# Altium schematic symbol library bms.SchLib: 18 symbols
Pins are listed as number, name and electrical type; pins without a type are passive.

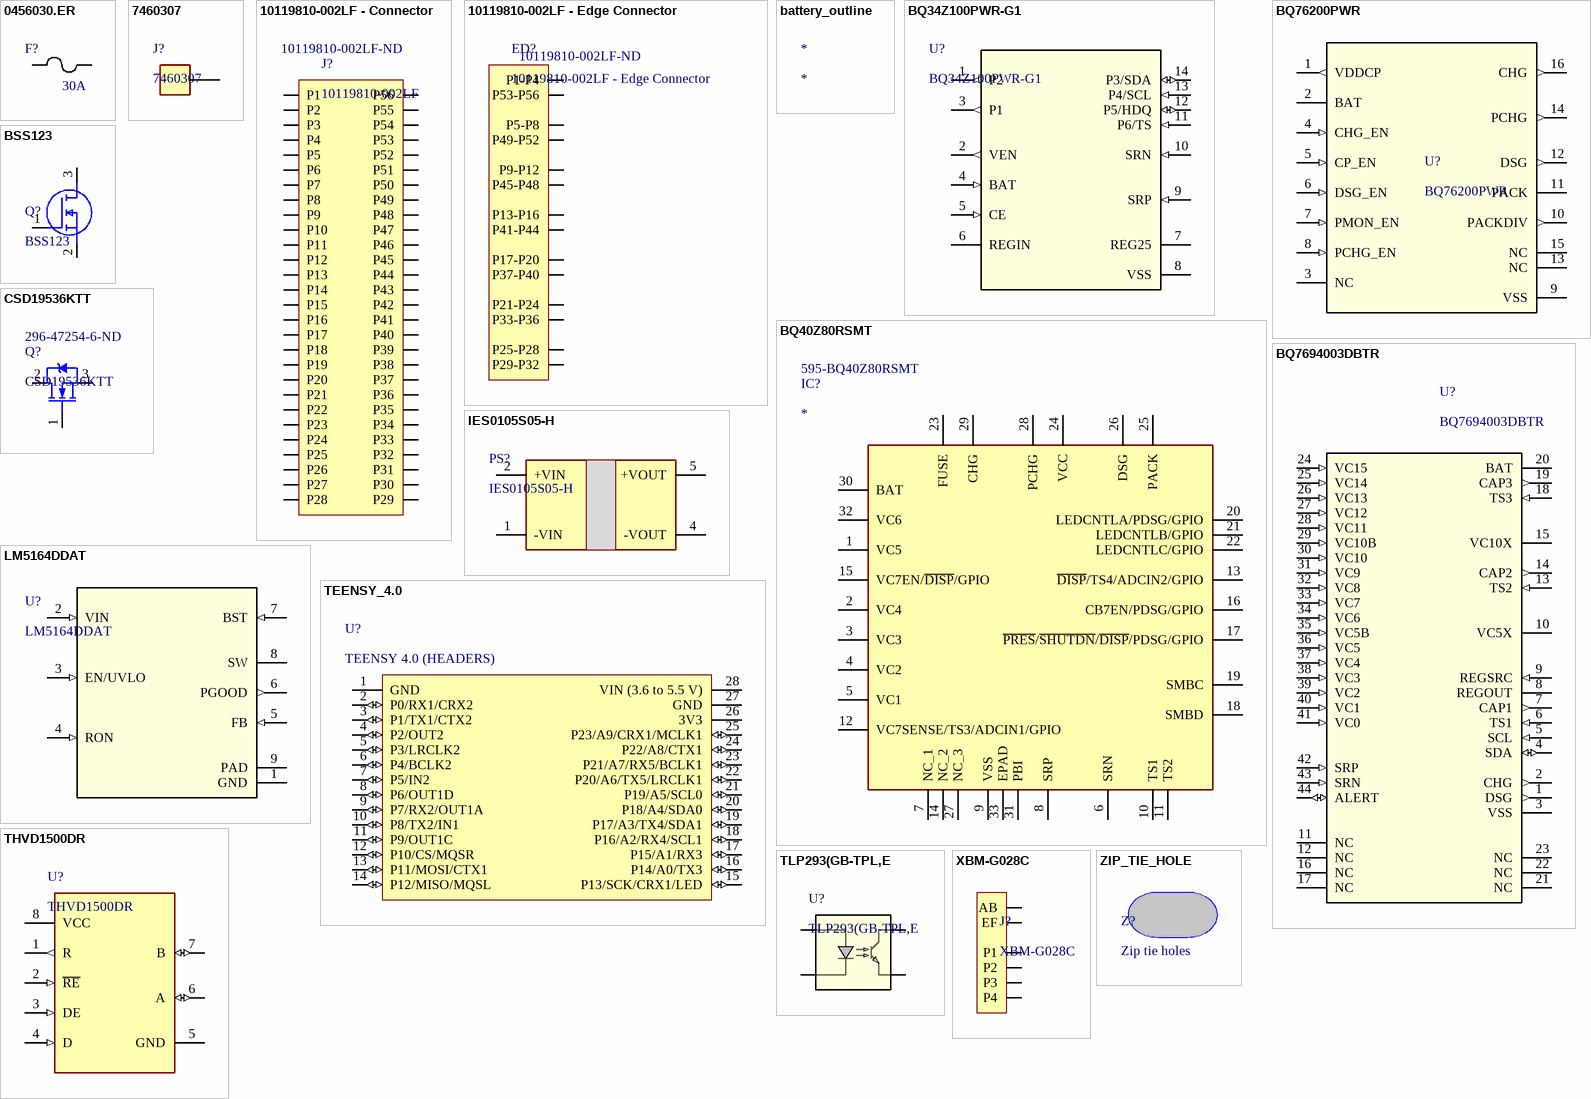
[diagram p0: symbols 0456030.ER to ZIP_TIE_HOLE]

## 0456030.ER
designator F?  Fuse Current: 30A  (hidden comment: 0456030.ER)
AC DC Fuse Board Mount (Cartridge Style Excluded) Surface Mount 2-SMD, Square End Block; Manufacturer: Littelfuse; Vendor: Littelfuse Inc; Built_By: EMA_UL_Team; SourceLibrary: Littelfuse_2002-01-01_FUSE_0400; Type: DEV; Body Material: Ceramic; Voltage Rating (AC): 125V; Voltage Rating (DC): 72V; Resistance: 1.32mR; Approvals: cULus,PSE; Manufacturer_Part_Number: 0456030.ER; Copyright: Copyright (C) 2018 Accelerated Designs. All rights reserved; RefDes: RefDes; Supplier 1: Digi-Key; Manufacturer Part Number: 0456030.ER; Stock 1: 4934; Pricing 1: 1=4.23, 5=4.092, 10=3.951, 50=3.104, 100=2.5396, 250=2.46908, 500=2.11636, 1000=1.97526 (USD); Mount: Surface Mount; Case/Package: SMD/SMT; Number of Pins: 2; Housing Material: Ceramic; Min Operating Temperature: -55°C; Max Operating Temperature: 125°C; Current Rating: 30A; Package Quantity: 2500; Voltage Rating: 125V; Packaging: Tape and Reel; Termination: SMD/SMT; DC Cold Resistance: 1.32mR; Fuse Type: Board Mount (Cartridge Style Excluded); Working Voltage: 125V; Length: 10.1mm; Width: 4.445mm; Height: 0.123inch; Depth: 3.12mm; Radiation Hardening: No; Lead Free: Lead Free; REACH SVHC: No SVHC; ComponentLink1URL: http://www.farnell.com/datasheets/1851809.pdf?src-supplier=Element14; ComponentLink1Description: http://www.farnell.com/datasheets/1851809.pdf?src-supplier=Element14; ComponentLink2URL: http://www.littelfuse.com/~/media/electronics/datasheets/fuses/littelfuse_fuse_456_datasheet.pdf.pdf?src-supplier=Digi-Key; ComponentLink2Description: http://www.littelfuse.com/~/media/electronics/datasheets/fuses/littelfuse_fuse_456_datasheet.pdf.pdf?src-supplier=Digi-Key; ComponentLink3URL: http://uk.rs-online.com/webdocs/1185/0900766b81185b84.pdf?src-supplier=RSComponents; ComponentLink3Description: http://uk.rs-online.com/webdocs/1185/0900766b81185b84.pdf?src-supplier=RSComponents; ComponentLink4URL: http://www.littelfuse.com/data/en/Data_Sheets/Littelfuse_Fuse_456.pdf?src-supplier=Future+Electronics; ComponentLink4Description: http://www.littelfuse.com/data/en/Data_Sheets/Littelfuse_Fuse_456.pdf?src-supplier=Future+Electronics; ComponentLink5URL: http://www.farnell.com/datasheets/1851809.pdf?src-supplier=Newark; ComponentLink5Description: http://www.farnell.com/datasheets/1851809.pdf?src-supplier=Newark; ComponentLink6URL: https://www.verical.com/server-webapp/html/getDatasheet?partID=306944&src-supplier=Verical; ComponentLink6Description: https://www.verical.com/server-webapp/html/getDatasheet?partID=306944&src-supplier=Verical; Supplier Part Number 1: F3345CT-ND
footprint FUS_LITTELFUSE_0456_30A_LTF
pins: 1, 2

## 7460307
designator J?
TERM REDCUBE M4 8PIN PCB 160A Current; Manufacturer: Wurth Electronics; Number of Contacts: 8; Insulation: Non-Insulated; Datasheet Link: https://katalog.we-online.com/em/datasheet/7460307.pdf; Height: 7mm; Mouser Part Number: 710-7460307; Mouser Price/Stock: https://www.mouser.co.uk/ProductDetail/Wurth-Elektronik/7460307?qs=lykWx4dhCCG1TLZtVq%252B8cQ%3D%3D; Supplier 1: Digi-Key; Manufacturer Part Number: 7460307; Stock 1: 4846; Pricing 1: 1=2.55, 10=2.356, 50=2.142, 100=1.947, 500=1.693 (USD); Mount: Through Hole; Number of Pins: 8; Contact Material: Copper; Contact Plating: Tin; Min Operating Temperature: -40°C; Max Operating Temperature: 135°C; Current Rating: 160A; Packaging: Bulk; Package Quantity: 250; Number of Rows: 2; Termination: Press-Fit; Length: 9mm; Width: 9mm; Thread Size: M4; REACH SVHC: Unknown; ComponentLink1URL: http://www.farnell.com/datasheets/1736661.pdf?src-supplier=Newark; ComponentLink1Description: http://www.farnell.com/datasheets/1736661.pdf?src-supplier=Newark; ComponentLink2URL: http://www.mouser.com/ds/2/445/7460307-537852.pdf?src-supplier=Mouser; ComponentLink2Description: http://www.mouser.com/ds/2/445/7460307-537852.pdf?src-supplier=Mouser; ComponentLink3URL: https://katalog.we-online.de/em/datasheet/7460307.pdf?src-supplier=Digi-Key; ComponentLink3Description: https://katalog.we-online.de/em/datasheet/7460307.pdf?src-supplier=Digi-Key; ComponentLink4URL: http://www.farnell.com/datasheets/1736661.pdf?src-supplier=Element14; ComponentLink4Description: http://www.farnell.com/datasheets/1736661.pdf?src-supplier=Element14; Supplier Part Number 1: 732-3201-ND
footprint 7460307
pins: 1 (power)

## 10119810-002LF - Connector
designator J?, comment 10119810-002LF  Supplier Part Number 1: 10119810-002LF-ND
56 Position Female Connector Non Specified - Dual Edge Gold or Gold, GXT™  Black; Manufacturer: Amphenol ICC (FCI); Supplier 1: Digi-Key; ComponentLink1Description: https://cdn.amphenol-icc.com/media/wysiwyg/files/drawing/10119810.pdf; ComponentLink1URL: https://cdn.amphenol-icc.com/media/wysiwyg/files/drawing/10119810.pdf; Manufacturer Part Number: 10119810-002LF; Detailed Description: 56 Position Female Connector Non Specified - Dual Edge Gold or Gold, GXT™  Black
footprint 10119810-002LF - Connector
pins: 3 P3 (power), P1 (power), P2 (power), P4 (power), P5 (power), P6 (power), P7 (power), P8 (power), P9 (power), P10 (power), P11 (power), P12 (power), P13 (power), P14 (power), P15 (power), P16 (power), P17 (power), P18 (power), P19 (power), P20 (power), P21 (power), P22 (power), P23 (power), P24 (power), P25 (power), P26 (power), P27 (power), P28 (power), P29 (power), P30 (power), P31 (power), P32 (power), P33 (power), P34 (power), P35 (power), P36 (power), P37 (power), P38 (power), P39 (power), P40 (power), P41 (power), P42 (power), P43 (power), P44 (power), P45 (power), P46 (power), P47 (power), P48 (power), P49 (power), P50 (power), P51 (power), P52 (power), P53 (power), P54 (power), P55 (power), P56 (power)

## 10119810-002LF - Edge Connector
designator ED?  Supplier Part Number 1: 10119810-002LF-ND
Supplier 1: Digi-Key
footprint 10119810-002LF - Edge Connector
pins: P1-P4 (power), P5-P8 (power), P9-P12 (power), P13-P16 (power), P17-P20 (power), P21-P24 (power), P25-P28 (power), P29-P32 (power), P33-P36 (power), P37-P40 (power), P41-P44 (power), P45-P48 (power), P49-P52 (power), P53-P56 (power)

## battery_outline
designator *
footprint battery_outline

## BQ34Z100PWR-G1
designator U?
Battery Battery Monitor IC Multi-Chemistry 14-TSSOP; SourceLibrary: TI_2016-05-20; Built_By: EMA_UL_Team; Vendor: Texas Instruments; Interface: I2C; Operating Supply Voltage: 4.5V; Copyright: Copyright (C) 2018 Accelerated Designs. All rights reserved; RefDes: RefDes; Type: DEV; Supplier 1: Mouser; Manufacturer: Texas Instruments; Manufacturer Part Number: BQ34Z100PWR-G1; Stock 1: 10681; Pricing 1: 1=4.09, 10=3.67, 25=3.47, 100=2.85, 250=2.56, 500=2.47, 1000=2.05, 2000=1.98, 4000=1.91 (USD); Mount: Surface Mount; Case/Package: TSSOP; Number of Pins: 14; Weight: 0.004949oz; Contact Plating: Gold; Min Operating Temperature: -40°C; Max Operating Temperature: 85°C; Packaging: Tape and Reel; Package Quantity: 2000; Lead Free: Lead Free; Supplier Part Number 1: 595-BQ34Z100PWR-G1; ComponentLink1Description: datasheet; ComponentLink1URL: https://www.ti.com/lit/ds/symlink/bq34z100-g1.pdf?HQS=TI-null-null-digikeymode-df-pf-null-wwe&ts=1601757828948
footprint TSSOP_14
pins: 1 P2 (out), 2 VEN (out), 3 P1 (out), 4 BAT (in), 5 CE (in), 6 REGIN (power), 7 REG25 (power), 8 VSS (power), 9 SRP (in), 10 SRN (in), 11 P6/TS (in), 12 P5/HDQ (io), 13 P4/SCL (in), 14 P3/SDA (io)

## BQ40Z80RSMT
designator IC?  Supplier Part Number 1: 595-BQ40Z80RSMT
Integrated Circuit; Manufacturer_Name: Texas Instruments; Manufacturer_Part_Number: BQ40Z80RSMT; Datasheet Link: http://www.ti.com/lit/gpn/BQ40Z80; Height: 1mm; Arrow Part Number: BQ40Z80RSMT; Arrow Price/Stock: https://www.arrow.com/en/products/bq40z80rsmt/texas-instruments; Mouser Part Number: 595-BQ40Z80RSMT; Mouser Price/Stock: https://www.mouser.co.uk/ProductDetail/Texas-Instruments/BQ40Z80RSMT?qs=%252BEew9%252B0nqrDHO6amwB5XZw%3D%3D; Supplier 1: Mouser; Manufacturer: Texas Instruments; Manufacturer Part Number: BQ40Z80RSMT; Stock 1: 1533; Pricing 1: 1=6.1, 10=5.48, 25=5.18, 100=4.26, 250=3.81, 500=3.68 (USD); Min Operating Temperature: -40°C; Max Operating Temperature: 85°C; ComponentLink1Description: Datasheet; ComponentLink1URL: https://www.ti.com/general/docs/suppproductinfo.tsp?distId=26&gotoUrl=http://www.ti.com/lit/ds/symlink/bq40z80.pdf
footprint QFN40P400X400X100-33N-D
pins: 1 VC5, 2 VC4, 3 VC3, 4 VC2, 5 VC1, 6 SRN, 7 NC_1, 8 SRP, 9 VSS, 10 TS1, 11 TS2, 12 VC7SENSE/TS3/ADCIN1/GPIO, 13 ~{DISP}/TS4/ADCIN2/GPIO, 14 NC_2, 15 VC7EN/~{DISP}/GPIO, 16 CB7EN/PDSG/GPIO, 17 ~{PRES}/~{SHUTDN}/~{DISP}/PDSG/GPIO, 18 SMBD, 19 SMBC, 20 LEDCNTLA/PDSG/GPIO, 21 LEDCNTLB/GPIO, 22 LEDCNTLC/GPIO, 23 FUSE, 24 VCC, 25 PACK, 26 DSG, 27 NC_3, 28 PCHG, 29 CHG, 30 BAT, 31 PBI, 32 VC6, 33 EPAD

## BQ76200PWR
designator U?
Battery Battery Protection IC Multi-Chemistry 16-TSSOP; Manufacturer: Texas Instruments; PIN_COUNT: 16; Output Voltage: 14V; Operating Supply Voltage: 75V; Application_BuildNumber: *; PartNumber: BQ76200PWR; Alternate_PartNumber: BQ76200PW; PackageReference: PW0016A; MountType: SMT; CompType: IC; RoHS: Y; RefDes: RefDes; Type: DEV; Value: Value; Copyright: Copyright (C) 2018 Accelerated Designs. All rights reserved; Supplier 1: Digi-Key; Manufacturer Part Number: BQ76200PWR; Stock 1: 7339; Pricing 1: 1=2.34, 10=2.099, 25=1.98, 100=1.584, 250=1.386, 500=1.3464, 1000=1.0692 (USD); Mount: Surface Mount; Case/Package: TSSOP; Number of Pins: 16; Contact Plating: Gold; Min Operating Temperature: -40°C; Max Operating Temperature: 85°C; Packaging: Tape and Reel; Lead Free: Lead Free; ComponentLink1URL: http://www.ti.com/lit/ds/symlink/bq76200.pdf?src-supplier=Digi-Key; ComponentLink1Description: http://www.ti.com/lit/ds/symlink/bq76200.pdf?src-supplier=Digi-Key; ComponentLink2URL: http://www.ti.com/lit/gpn/bq76200?src-supplier=Mouser; ComponentLink2Description: http://www.ti.com/lit/gpn/bq76200?src-supplier=Mouser; Supplier Part Number 1: 296-43273-6-ND
footprint TSSOP_16
pins: 1 VDDCP (out), 2 BAT (power), 3 NC, 4 CHG_EN (in), 5 CP_EN (in), 6 DSG_EN (in), 7 PMON_EN (in), 8 PCHG_EN (in), 9 VSS (power), 10 PACKDIV (out), 11 PACK (power), 12 DSG (out), 13 NC, 14 PCHG (out), 15 NC, 16 CHG (out)

## BQ7694003DBTR
designator U?
Battery Management Li-Ion, Li-Phosphate Battery Moniter; Vendor: Texas Instruments; Built_By: EMA_Jessica; SourceLibrary: TI_2019-03-25_2; Output Voltage: 16V; Operating Supply Voltage: 25V; Manufacturer_Part_Number: BQ7694003DBTR; Copyright: Copyright (C) 2018 Accelerated Designs. All rights reserved; RefDes: RefDes; Type: DEV; Supplier 1: Mouser; Manufacturer: Texas Instruments; Manufacturer Part Number: BQ7694003DBTR; Stock 1: 3729; Pricing 1: 1=5.18, 10=4.65, 25=4.39, 100=3.61, 250=3.24, 500=3.12 (USD); Mount: Surface Mount; Case/Package: TSSOP; Weight: 0.004914oz; Contact Plating: Gold; Min Operating Temperature: -40°C; Max Operating Temperature: 85°C; Packaging: Tape and Reel; Package Quantity: 2000; Lead Free: Lead Free; ComponentLink1URL: http://www.ti.com/lit/gpn/bq76940?src-supplier=Mouser; ComponentLink1Description: http://www.ti.com/lit/gpn/bq76940?src-supplier=Mouser; ComponentLink2URL: http://www.ti.com/general/docs/lit/getliterature.tsp?genericPartNumber=BQ76920&amp;&amp;fileType=pdf&src-supplier=Avnet+Asia; ComponentLink2Description: http://www.ti.com/general/docs/lit/getliterature.tsp?genericPartNumber=BQ76920&amp;&amp;fileType=pdf&src-supplier=Avnet+Asia; ComponentLink3URL: http://www.ti.com/general/docs/suppproductinfo.tsp?distId=10&amp;gotoUrl=http%3A%2F%2Fwww.ti.com%2Flit%2Fgpn%2Fbq76920&src-supplier=Digi-Key; ComponentLink3Description: http://www.ti.com/general/docs/suppproductinfo.tsp?distId=10&amp;gotoUrl=http%3A%2F%2Fwww.ti.com%2Flit%2Fgpn%2Fbq76920&src-supplier=Digi-Key; ComponentLink4URL: http://www.ti.com/general/docs/lit/getliterature.tsp?genericPartNumber=BQ76920&&fileType=pdf&src-supplier=Avnet; ComponentLink4Description: http://www.ti.com/general/docs/lit/getliterature.tsp?genericPartNumber=BQ76920&&fileType=pdf&src-supplier=Avnet; ComponentLink5URL: http://www.ti.com/lit/pdf/slpt046?src-supplier=Digi-Key; ComponentLink5Description: http://www.ti.com/lit/pdf/slpt046?src-supplier=Digi-Key; Supplier Part Number 1: 595-BQ7694003DBTR
footprint TSSOP_44
pins: 1 DSG (out), 2 CHG (out), 3 VSS (power), 4 SDA (io), 5 SCL (in), 6 TS1 (in), 7 CAP1 (out), 8 REGOUT (power), 9 REGSRC (in), 10 VC5X (power), 11 NC, 12 NC, 13 TS2 (in), 14 CAP2 (out), 15 VC10X (power), 16 NC, 17 NC, 18 TS3 (in), 19 CAP3 (out), 20 BAT (power), 21 NC, 22 NC, 23 NC, 24 VC15 (in), 25 VC14 (in), 26 VC13 (in), 27 VC12 (in), 28 VC11 (in), 29 VC10B (in), 30 VC10 (in), 31 VC9 (in), 32 VC8 (in), 33 VC7 (in), 34 VC6 (in), 35 VC5B (in), 36 VC5 (in), 37 VC4 (in), 38 VC3 (in), 39 VC2 (in), 40 VC1 (in), 41 VC0 (in), 42 SRP (in), 43 SRN (in), 44 ALERT (io)

## BSS123
designator Q?
N-Channel 100V 170mA (Ta) 225mW (Ta) Surface Mount SOT-23-3 (TO-236); Manufacturer_Name: ON Semiconductor; Manufacturer: ON Semiconductor / Fairchild; Input Capacitance: 73pF; Max Power Dissipation: 360mW; Drain to Source Resistance: 6R; Turn-Off Delay Time: 17ns; Turn-On Delay Time: 1.7ns; Element Configuration: Single; Gate to Source Voltage (Vgs): 20V; Rise Time: 9ns; Number of Elements: 1; Nominal Vgs: 1.7V; Datasheet Link: http://uk.rs-online.com/web/p/products/6710321; Height: 1.11mm; Arrow Part Number: BSS123; Arrow Price/Stock: https://www.arrow.com/en/products/bss123/on-semiconductor; Mouser Part Number: 512-BSS123; Mouser Price/Stock: https://www.mouser.co.uk/ProductDetail/ON-Semiconductor-Fairchild/BSS123?qs=FOlmdCx%252BAA2Kf8SEB3qLYA%3D%3D; Supplier 1: Digi-Key; Manufacturer Part Number: BSS123; Stock 1: 169350; Pricing 1: 1=0.31, 10=0.255, 25=0.2132, 100=0.1043, 500=0.08698, 1000=0.06044 (USD); Mount: Surface Mount; Case/Package: SOT-23; Number of Pins: 3; Contact Plating: Tin,Matte; Min Operating Temperature: -55°C; Max Operating Temperature: 150°C; Drain to Source Voltage (Vdss): 100V; Continuous Drain Current (ID): 170mA; Packaging: Tape and Reel; Power Dissipation: 360mW; Rds On Max: 6R; Fall Time: 9ns; Package Quantity: 1; Drain to Source Breakdown Voltage: 100V; Threshold Voltage: 1.7V; Voltage Rating (DC): 100V; Current Rating: 170mA; On-State Resistance: 6R; Voltage: 100V; Dual Supply Voltage: 100V; Length: 2.92mm; Width: 1.3mm; Radiation Hardening: No; REACH SVHC: No SVHC; Lead Free: Lead Free; ComponentLink1URL: https://www.fairchildsemi.com/datasheets/BS/BSS123.pdf?src-supplier=Avnet; ComponentLink1Description: https://www.fairchildsemi.com/datasheets/BS/BSS123.pdf?src-supplier=Avnet; ComponentLink2URL: https://www.fairchildsemi.com/package-drawings/MA/MA03B.pdf?src-supplier=Digi-Key; ComponentLink2Description: https://www.fairchildsemi.com/package-drawings/MA/MA03B.pdf?src-supplier=Digi-Key; ComponentLink3URL: https://www.fairchildsemi.com/datasheets/BS/BSS123.pdf?src-supplier=Avnet+Asia; ComponentLink3Description: https://www.fairchildsemi.com/datasheets/BS/BSS123.pdf?src-supplier=Avnet+Asia; ComponentLink4URL: http://www.farnell.com/datasheets/2288251.pdf?src-supplier=Farnell; ComponentLink4Description: http://www.farnell.com/datasheets/2288251.pdf?src-supplier=Farnell; ComponentLink5URL: http://www.jameco.com/Jameco/Products/ProdDS/870161.pdf?src-supplier=Jameco; ComponentLink5Description: http://www.jameco.com/Jameco/Products/ProdDS/870161.pdf?src-supplier=Jameco; ComponentLink6URL: http://www.mouser.com/ds/2/149/BSS123-90724.pdf?src-supplier=Mouser; ComponentLink6Description: http://www.mouser.com/ds/2/149/BSS123-90724.pdf?src-supplier=Mouser; ComponentLink7URL: http://www.farnell.com/datasheets/2288251.pdf?src-supplier=Element14; ComponentLink7Description: http://www.farnell.com/datasheets/2288251.pdf?src-supplier=Element14; ComponentLink8URL: http://www.fairchildsemi.com/ds/BS/BSS123.pdf?src-supplier=Future+Electronics; ComponentLink8Description: http://www.fairchildsemi.com/ds/BS/BSS123.pdf?src-supplier=Future+Electronics; ComponentLink9URL: https://www.verical.com/server-webapp/html/getDatasheet?partID=58830&src-supplier=Verical; ComponentLink9Description: https://www.verical.com/server-webapp/html/getDatasheet?partID=58830&src-supplier=Verical; Supplier Part Number 1: BSS123NDKR-ND
footprint SOT96P237X111-3N
pins: 1 G, 2 S, 3 D

## CSD19536KTT
designator Q?  Supplier Part Number 1: 296-47254-6-ND
This 100 V, 2.0 m D2PAK (TO-263) NexFET power MOSFET is designed to minimize losses in power conversion applications.; Manufacturer: Texas Instruments; Drain to Source Voltage (Vdss): 100V; Continuous Drain Current (ID): 200A; Rds On Max: 2.4mR; Input Capacitance: 12nF; Max Power Dissipation: 375W; Fall Time: 6ns; Gate to Source Voltage (Vgs): 20V; Rise Time: 8ns; Turn-On Delay Time: 13ns; Turn-Off Delay Time: 32ns; Element Configuration: Single; Supplier 1: Digi-Key; Manufacturer Part Number: CSD19536KTT; Stock 1: 4702; Pricing 1: 1=4.98, 10=4.47, 25=4.2256, 100=3.3804 (USD); Mount: Surface Mount; Case/Package: D2PAK; Contact Plating: Tin; Min Operating Temperature: -55°C; Max Operating Temperature: 175°C; Packaging: Tape and Reel; Lead Free: Contains Lead; ComponentLink1URL: http://www.ti.com/lit/gpn/csd19536ktt?src-supplier=Mouser; ComponentLink1Description: http://www.ti.com/lit/gpn/csd19536ktt?src-supplier=Mouser; ComponentLink2URL: http://www.ti.com/general/docs/lit/getliterature.tsp?genericPartNumber=CSD19536KTT&amp;&amp;fileType=pdf&src-supplier=Avnet+Asia; ComponentLink2Description: http://www.ti.com/general/docs/lit/getliterature.tsp?genericPartNumber=CSD19536KTT&amp;&amp;fileType=pdf&src-supplier=Avnet+Asia; ComponentLink3URL: http://www.ti.com/lit/ds/symlink/csd19536ktt.pdf?src-supplier=Digi-Key; ComponentLink3Description: http://www.ti.com/lit/ds/symlink/csd19536ktt.pdf?src-supplier=Digi-Key; ComponentLink4URL: http://www.ti.com/general/docs/suppproductinfo.tsp?distId=10&amp;gotoUrl=http%3A%2F%2Fwww.ti.com%2Flit%2Fgpn%2Fcsd19536ktt&src-supplier=Digi-Key; ComponentLink4Description: http://www.ti.com/general/docs/suppproductinfo.tsp?distId=10&amp;gotoUrl=http%3A%2F%2Fwww.ti.com%2Flit%2Fgpn%2Fcsd19536ktt&src-supplier=Digi-Key; ComponentLink5URL: http://www.ti.com/general/docs/lit/getliterature.tsp?genericPartNumber=CSD19536KTT&&fileType=pdf&src-supplier=Avnet; ComponentLink5Description: http://www.ti.com/general/docs/lit/getliterature.tsp?genericPartNumber=CSD19536KTT&&fileType=pdf&src-supplier=Avnet
footprint DDPAK
pins: 1 G, 2 D, 3 S

## IES0105S05-H
designator PS?
Isolated DC/DC Converters DC-DC, 1W, Unregulated, SMD, HIGH ISOLATION; Manufacturer: XP Power; Datasheet Link: https://www.mouser.com/datasheet/2/942/SF_IES01-1666999.pdf; Height: 7.35mm; Mouser Part Number: 209-IES0105S05-H; Mouser Price/Stock: https://www.mouser.co.uk/ProductDetail/XP-Power/IES0105S05-H?qs=Cb2nCFKsA8q04%252BaEkllcdA%3D%3D; Supplier 1: Mouser; Manufacturer Part Number: IES0105S05-H; Stock 1: 83; Pricing 1: 1=3.4, 5=3.3, 10=3.2, 25=3.06, 50=3.06, 100=2.85 (USD); Supplier 2: Digi-Key; Stock 2: 150; Pricing 2: 1=3.4, 5=3.298, 10=3.196, 25=3.06, 100=2.856 (USD); ComponentLink1Description: https://www.mouser.com/datasheet/2/942/SF_IES01-1666999.pdf; ComponentLink1URL: https://www.mouser.com/datasheet/2/942/SF_IES01-1666999.pdf; Supplier Part Number 1: 209-IES0105S05-H; Supplier Part Number 2: 1470-IES0105S05-H-ND
footprint IES0105S05H
pins: 1 -VIN, 2 +VIN, 4 -VOUT, 5 +VOUT

## LM5164DDAT
designator U?
Buck Switching Regulator IC Positive Adjustable 1.2V 1 Output 1A 8-PowerSOIC (0.154", 3.90mm Width); SourceLibrary: TI_2020-05-18; Built_By: EMA_Jessica; Vendor: Texas Instruments; Copyright: Copyright (C) 2018 Accelerated Designs. All rights reserved; Manufacturer_Part_Number: LM5164DDAT; RefDes: RefDes; Type: DEV; Supplier 1: Mouser; Manufacturer: Texas Instruments; Manufacturer Part Number: LM5164DDAT; Stock 1: 472; Pricing 1: 1=4.11, 10=3.69, 25=3.49, 100=2.87, 250=2.58, 500=2.48 (USD); Supplier 2: Digi-Key; Stock 2: 1139; Pricing 2: 1=4.1, 10=3.687, 25=3.4852, 100=2.8657 (USD); Supplier Part Number 1: 595-LM5164DDAT; Supplier Part Number 2: 296-53428-6-ND; ComponentLink1Description: Datasheet; ComponentLink1URL: https://www.ti.com/lit/ds/symlink/lm5164.pdf?HQS=TI-null-null-digikeymode-df-pf-null-wwe&ts=1601836871734
footprint PowerSOIC_8
pins: 1 GND (power), 2 VIN (in), 3 EN/UVLO (in), 4 RON (in), 5 FB (in), 6 PGOOD (out), 7 BST (in), 8 SW, 9 PAD (power)

## TEENSY_4.0
designator U?, comment TEENSY 4.0 (HEADERS)
RT1062 Teensy 4.0 series ARM® Cortex®-M7 MCU 32-Bit Embedded Evaluation Board; ComponentLink1Description: https://www.pjrc.com/store/teensy40.html; ComponentLink1URL: https://www.pjrc.com/store/teensy40.html
footprint TEENSY_SLIM
pins: 1 GND (power), 2 P0/RX1/CRX2 (io), 3 P1/TX1/CTX2 (io), 4 P2/OUT2 (io), 5 P3/LRCLK2 (io), 6 P4/BCLK2 (io), 7 P5/IN2 (io), 8 P6/OUT1D (io), 9 P7/RX2/OUT1A (io), 10 P8/TX2/IN1 (io), 11 P9/OUT1C (io), 12 P10/CS/MQSR (io), 13 P11/MOSI/CTX1 (io), 14 P12/MISO/MQSL (io), 15 P13/SCK/CRX1/LED (io), 16 P14/A0/TX3 (io), 17 P15/A1/RX3 (io), 18 P16/A2/RX4/SCL1 (io), 19 P17/A3/TX4/SDA1 (io), 20 P18/A4/SDA0 (io), 21 P19/A5/SCL0 (io), 22 P20/A6/TX5/LRCLK1 (io), 23 P21/A7/RX5/BCLK1 (io), 24 P22/A8/CTX1 (io), 25 P23/A9/CRX1/MCLK1 (io), 26 3V3 (power), 27 GND (power), 28 VIN (3.6 to 5.5 V) (power)

## THVD1500DR
designator U?
1/1 Transceiver Half RS485 8-SOIC; Manufacturer: Texas Instruments; Simplex/Duplex: Half Duplex; Receiver Hysteresis: 50mV; Data Rate: 300Kbps; Datasheet Link: http://www.ti.com/lit/ds/symlink/thvd1500.pdf; Height: 1.75mm; Arrow Part Number: THVD1500DR; Arrow Price/Stock: https://www.arrow.com/en/products/thvd1500dr/texas-instruments; Mouser Part Number: 595-THVD1500DR; Mouser Price/Stock: https://www.mouser.co.uk/ProductDetail/Texas-Instruments/THVD1500DR?qs=BZBei1rCqCCoy%2F6ZamlIPw%3D%3D; Supplier 1: Digi-Key; Manufacturer Part Number: THVD1500DR; Stock 1: 9835; Pricing 1: 1=1.29, 10=1.151, 25=1.092, 100=0.8385, 250=0.741, 500=0.702, 1000=0.546 (USD); Mount: Surface Mount; Case/Package: SOIC; Number of Pins: 8; Min Operating Temperature: -40°C; Max Operating Temperature: 125°C; Packaging: Cut Tape; ComponentLink1URL: http://www.ti.com/lit/ds/symlink/thvd1500.pdf?src-supplier=Digi-Key; ComponentLink1Description: http://www.ti.com/lit/ds/symlink/thvd1500.pdf?src-supplier=Digi-Key; Supplier Part Number 1: 296-48170-6-ND
footprint SOIC_8
pins: 1 R (out), 2 ~{RE} (in), 3 DE (in), 4 D (in), 5 GND (power), 6 A (io), 7 B (io), 8 VCC (power)

## TLP293(GB-TPL,E
designator U?
No Description Available; Vendor: Toshiba; Built_By: EMA_UL_Team; SourceLibrary: Toshiba_2019-12-10; Number_devices_in_Package: 1; Manufacturer_Part_Number: TLP293(GB-TPL,E; Copyright: Copyright (C) 2018 Accelerated Designs. All rights reserved; RefDes: RefDes; Type: DEV; Source_Package: TLP293
pins: 1, 2, 3, 4

## XBM-G028C
designator J?
28 pos power connector  (0.8X1.6mm pitch)-with post; Manufacturer: Neoconix; Manufacturer Part Number: XBM-G028C
footprint XBM-G028A
pins: AB (power), EF (power), P1, P2, P3, P4

## ZIP_TIE_HOLE
designator Z?, comment Zip tie holes
5x2mm hole
footprint ZIP_TIE_HOLE